# Altium schematic symbol library 原理图封装库.SCHLIB: 195 symbols (part 2 of 2)

## STM32F103VC
designator *
pins: 1 PE2 (io), 2 PE3 (io), 3 PE4 (io), 4 PE5 (io), 5 PE6 (io), 6 VBAT (power), 7 PC13-TAMPER-RTC (io), 8 PC14-OSC32_IN (io), 9 PC15-OSC32_OUT (io), 10 VSS_5 (power), 11 VDD_5 (power), 12 OSC_IN (in), 13 OSC_OUT (out), 14 NRST (io), 15 PC0/ADC123_IN10 (io), 16 PC1/ADC123_IN11 (io), 17 PC2/ADC123_IN12 (io), 18 PC3/ADC123_IN13 (io), 19 VSSA (power), 20 VREF- (power), 21 VREF+ (power), 22 VDDA (power), 23 PA0/ADC123_IN0 (io), 24 PA1/ADC123_IN1 (io), 25 PA2/ADC123_IN2 (io), 26 PA3/ADC123_IN3 (io), 27 VSS_4 (power), 28 VDD_4 (power), 29 PA4/ADC12_IN4 (io), 30 PA5/ADC12_IN5 (io), 31 PA6/ADC12_IN6 (io), 32 PA7/ADC12_IN7 (io), 33 PC4/ADC12_IN14 (io), 34 PC5/ADC12_IN15 (io), 35 PB0/ADC12_IN8 (io), 36 PB1/ADC12_IN9 (io), 37 PB2/BOOT1 (io), 38 PE7 (io), 39 PE8 (io), 40 PE9 (io), 41 PE10 (io), 42 PE11 (io), 43 PE12 (io), 44 PE13 (io), 45 PE14 (io), 46 PE15 (io), 47 PB10/USART3_TX (io), 48 PB11/USART3_RX (io), 49 VSS_1 (power), 50 VDD_1 (power), 51 PB12 (io), 52 PB13 (io), 53 PB14 (io), 54 PB15 (io), 55 PD8 (io), 56 PD9 (io), 57 PD10 (io), 58 PD11 (io), 59 PD12 (io), 60 PD13 (io), 61 PD14 (io), 62 PD15 (io), 63 PC6 (io), 64 PC7 (io), 65 PC8 (io), 66 PC9 (io), 67 PA8/USART1_CK/TIM1_CH2 (io), 68 PA9/USART1_TX (io), 69 PA10/USART1_RX (io), 70 PA11 (io), 71 PA12 (io), 72 PA13/JTMS/SWDIO (io), 73 NC, 74 VSS_2 (power), 75 VDD_2 (power), 76 PA14/JTCK/SWCLK (io), 77 PA15/JTDI (io), 78 PC10/UART4_TX (io), 79 PC11/UART4_RX (io), 80 PC12/UART5_TX (io), 81 PD0 (io), 82 PD1 (io), 83 PD2/UART5_RX (io), 84 PD3 (io), 85 PD4 (io), 86 PD5 (io), 87 PD6 (io), 88 PD7 (io), 89 PB3/JTDO (io), 90 PB4/JNTRST (io), 91 PB5 (io), 92 PB6 (io), 93 PB7 (io), 94 BOOT0 (in), 95 PB8 (io), 96 PB9 (io), 97 PE0 (io), 98 PE1 (io), 99 VSS_3 (power), 100 VDD_3 (power)

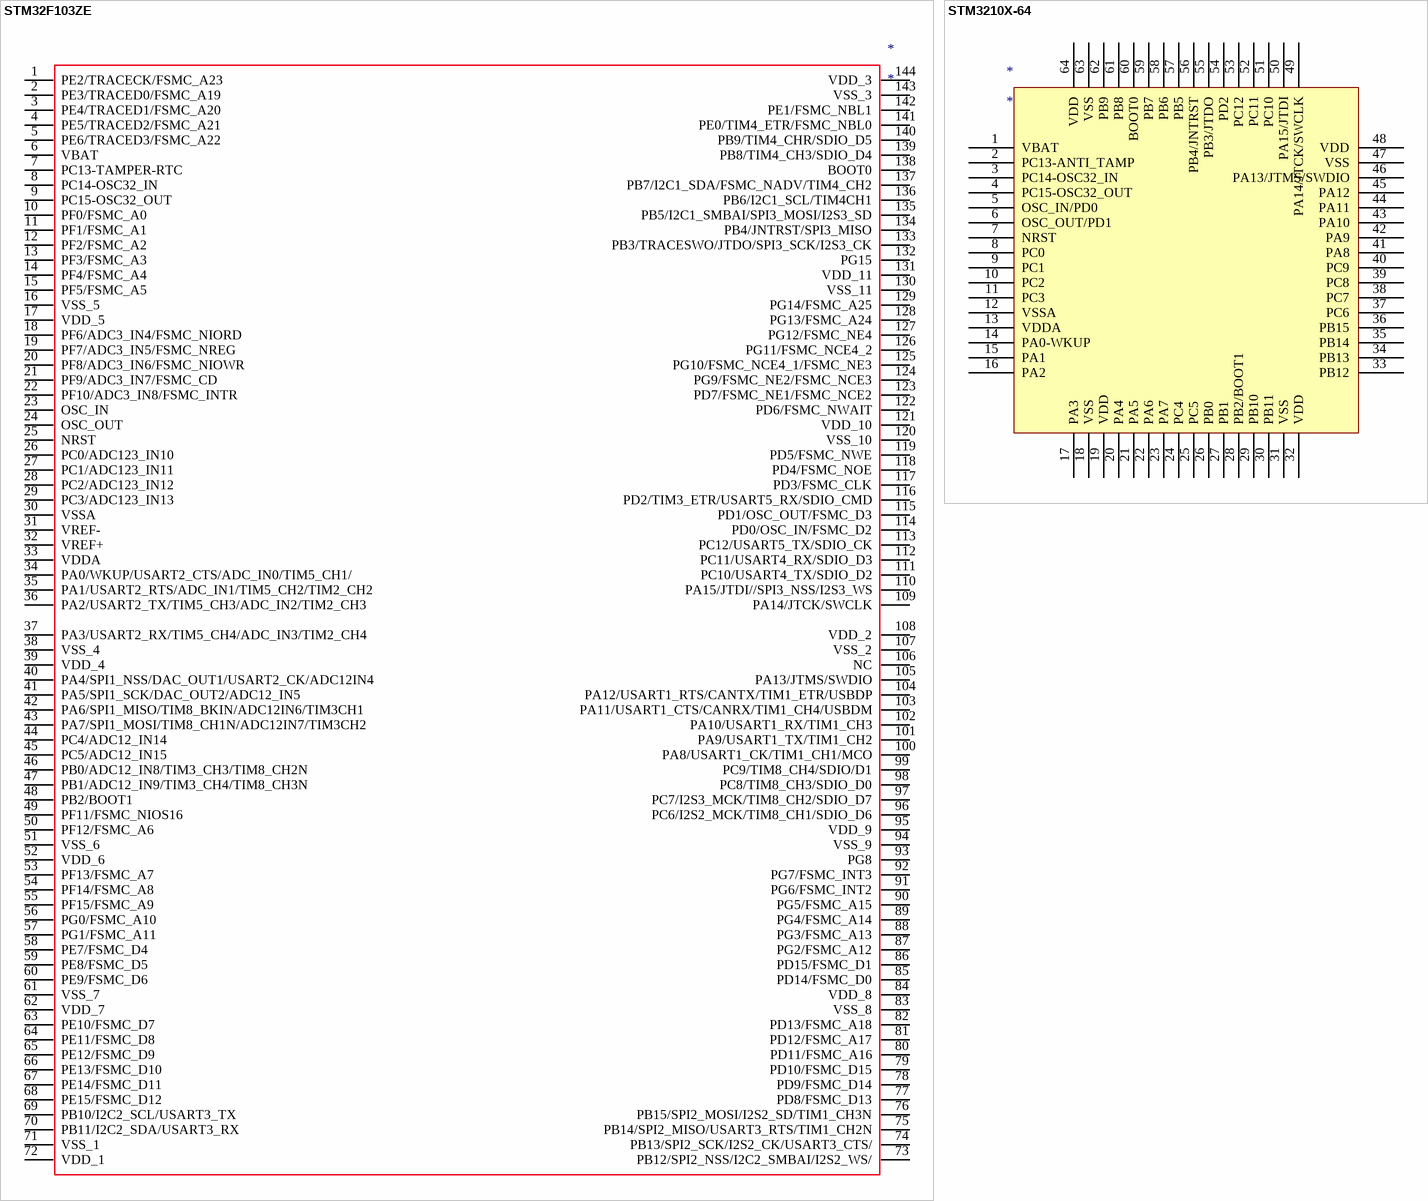
[diagram p12: symbols STM32F103ZE to STM3210X-64]

## STM32F103ZE
designator *
pins: 1 PE2/TRACECK/FSMC_A23, 2 PE3/TRACED0/FSMC_A19, 3 PE4/TRACED1/FSMC_A20, 4 PE5/TRACED2/FSMC_A21, 5 PE6/TRACED3/FSMC_A22, 6 VBAT, 7 PC13-TAMPER-RTC, 8 PC14-OSC32_IN, 9 PC15-OSC32_OUT, 10 PF0/FSMC_A0, 11 PF1/FSMC_A1, 12 PF2/FSMC_A2, 13 PF3/FSMC_A3, 14 PF4/FSMC_A4, 15 PF5/FSMC_A5, 16 VSS_5, 17 VDD_5, 18 PF6/ADC3_IN4/FSMC_NIORD, 19 PF7/ADC3_IN5/FSMC_NREG, 20 PF8/ADC3_IN6/FSMC_NIOWR, 21 PF9/ADC3_IN7/FSMC_CD, 22 PF10/ADC3_IN8/FSMC_INTR, 23 OSC_IN, 24 OSC_OUT, 25 NRST, 26 PC0/ADC123_IN10, 27 PC1/ADC123_IN11, 28 PC2/ADC123_IN12, 29 PC3/ADC123_IN13, 30 VSSA, 31 VREF-, 32 VREF+, 33 VDDA, 34 PA0/WKUP/USART2_CTS/ADC_IN0/TIM5_CH1/, 35 PA1/USART2_RTS/ADC_IN1/TIM5_CH2/TIM2_CH2, 36 PA2/USART2_TX/TIM5_CH3/ADC_IN2/TIM2_CH3, 37 PA3/USART2_RX/TIM5_CH4/ADC_IN3/TIM2_CH4, 38 VSS_4, 39 VDD_4, 40 PA4/SPI1_NSS/DAC_OUT1/USART2_CK/ADC12IN4, 41 PA5/SPI1_SCK/DAC_OUT2/ADC12_IN5, 42 PA6/SPI1_MISO/TIM8_BKIN/ADC12IN6/TIM3CH1, 43 PA7/SPI1_MOSI/TIM8_CH1N/ADC12IN7/TIM3CH2, 44 PC4/ADC12_IN14, 45 PC5/ADC12_IN15, 46 PB0/ADC12_IN8/TIM3_CH3/TIM8_CH2N, 47 PB1/ADC12_IN9/TIM3_CH4/TIM8_CH3N, 48 PB2/BOOT1, 49 PF11/FSMC_NIOS16, 50 PF12/FSMC_A6, 51 VSS_6, 52 VDD_6, 53 PF13/FSMC_A7, 54 PF14/FSMC_A8, 55 PF15/FSMC_A9, 56 PG0/FSMC_A10, 57 PG1/FSMC_A11, 58 PE7/FSMC_D4, 59 PE8/FSMC_D5, 60 PE9/FSMC_D6, 61 VSS_7, 62 VDD_7, 63 PE10/FSMC_D7, 64 PE11/FSMC_D8, 65 PE12/FSMC_D9, 66 PE13/FSMC_D10, 67 PE14/FSMC_D11, 68 PE15/FSMC_D12, 69 PB10/I2C2_SCL/USART3_TX, 70 PB11/I2C2_SDA/USART3_RX, 71 VSS_1, 72 VDD_1, 73 PB12/SPI2_NSS/I2C2_SMBAI/I2S2_WS/, 74 PB13/SPI2_SCK/I2S2_CK/USART3_CTS/, 75 PB14/SPI2_MISO/USART3_RTS/TIM1_CH2N, 76 PB15/SPI2_MOSI/I2S2_SD/TIM1_CH3N, 77 PD8/FSMC_D13, 78 PD9/FSMC_D14, 79 PD10/FSMC_D15, 80 PD11/FSMC_A16, 81 PD12/FSMC_A17, 82 PD13/FSMC_A18, 83 VSS_8, 84 VDD_8, 85 PD14/FSMC_D0, 86 PD15/FSMC_D1, 87 PG2/FSMC_A12, 88 PG3/FSMC_A13, 89 PG4/FSMC_A14, 90 PG5/FSMC_A15, 91 PG6/FSMC_INT2, 92 PG7/FSMC_INT3, 93 PG8, 94 VSS_9, 95 VDD_9, 96 PC6/I2S2_MCK/TIM8_CH1/SDIO_D6, 97 PC7/I2S3_MCK/TIM8_CH2/SDIO_D7, 98 PC8/TIM8_CH3/SDIO_D0, 99 PC9/TIM8_CH4/SDIO/D1, 100 PA8/USART1_CK/TIM1_CH1/MCO, 101 PA9/USART1_TX/TIM1_CH2, 102 PA10/USART1_RX/TIM1_CH3, 103 PA11/USART1_CTS/CANRX/TIM1_CH4/USBDM, 104 PA12/USART1_RTS/CANTX/TIM1_ETR/USBDP, 105 PA13/JTMS/SWDIO, 106 NC, 107 VSS_2, 108 VDD_2, 109 PA14/JTCK/SWCLK, 110 PA15/JTDI//SPI3_NSS/I2S3_WS, 111 PC10/USART4_TX/SDIO_D2, 112 PC11/USART4_RX/SDIO_D3, 113 PC12/USART5_TX/SDIO_CK, 114 PD0/OSC_IN/FSMC_D2, 115 PD1/OSC_OUT/FSMC_D3, 116 PD2/TIM3_ETR/USART5_RX/SDIO_CMD, 117 PD3/FSMC_CLK, 118 PD4/FSMC_NOE, 119 PD5/FSMC_NWE, 120 VSS_10, 121 VDD_10, 122 PD6/FSMC_NWAIT, 123 PD7/FSMC_NE1/FSMC_NCE2, 124 PG9/FSMC_NE2/FSMC_NCE3, 125 PG10/FSMC_NCE4_1/FSMC_NE3, 126 PG11/FSMC_NCE4_2, 127 PG12/FSMC_NE4, 128 PG13/FSMC_A24, 129 PG14/FSMC_A25, 130 VSS_11, 131 VDD_11, 132 PG15, 133 PB3/TRACESWO/JTDO/SPI3_SCK/I2S3_CK, 134 PB4/JNTRST/SPI3_MISO, 135 PB5/I2C1_SMBAI/SPI3_MOSI/I2S3_SD, 136 PB6/I2C1_SCL/TIM4CH1, 137 PB7/I2C1_SDA/FSMC_NADV/TIM4_CH2, 138 BOOT0, 139 PB8/TIM4_CH3/SDIO_D4, 140 PB9/TIM4_CHR/SDIO_D5, 141 PE0/TIM4_ETR/FSMC_NBL0, 142 PE1/FSMC_NBL1, 143 VSS_3, 144 VDD_3

## STM3210X-64
designator *
pins: 1 VBAT, 2 PC13-ANTI_TAMP, 3 PC14-OSC32_IN, 4 PC15-OSC32_OUT, 5 OSC_IN/PD0, 6 OSC_OUT/PD1, 7 NRST, 8 PC0, 9 PC1, 10 PC2, 11 PC3, 12 VSSA, 13 VDDA, 14 PA0-WKUP, 15 PA1, 16 PA2, 17 PA3, 18 VSS, 19 VDD, 20 PA4, 21 PA5, 22 PA6, 23 PA7, 24 PC4, 25 PC5, 26 PB0, 27 PB1, 28 PB2/BOOT1, 29 PB10, 30 PB11, 31 VSS, 32 VDD, 33 PB12, 34 PB13, 35 PB14, 36 PB15, 37 PC6, 38 PC7, 39 PC8, 40 PC9, 41 PA8, 42 PA9, 43 PA10, 44 PA11, 45 PA12, 46 PA13/JTMS/SWDIO, 47 VSS, 48 VDD, 49 PA14/JTCK/SWCLK, 50 PA15/JTDI, 51 PC10, 52 PC11, 53 PC12, 54 PD2, 55 PB3/JTDO, 56 PB4/JNTRST, 57 PB5, 58 PB6, 59 PB7, 60 BOOT0, 61 PB8, 62 PB9, 63 VSS, 64 VDD

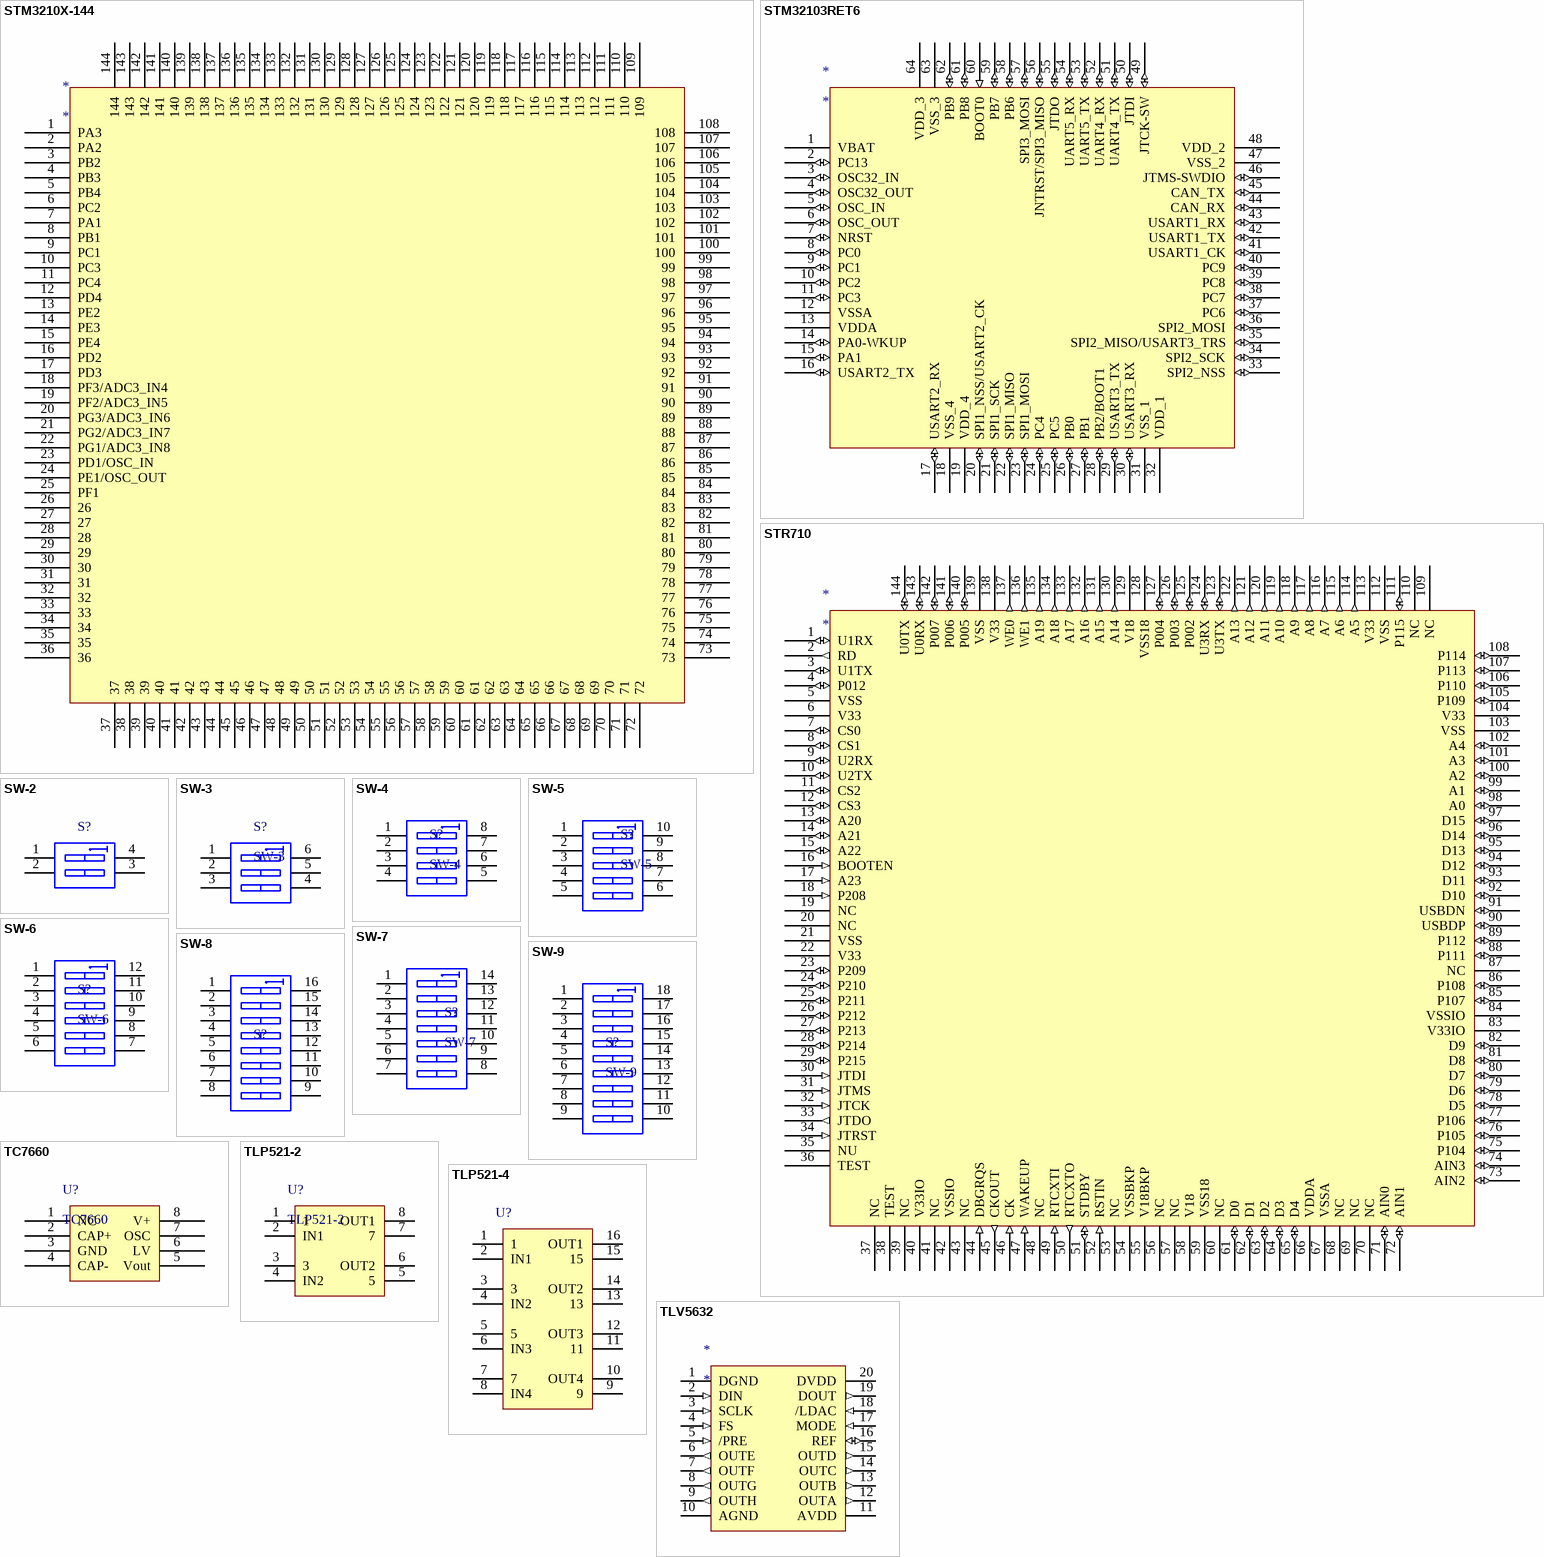
[diagram p13: symbols STM3210X-144 to TLV5632]

## STM3210X-144
designator *
pins: 1 PA3, 2 PA2, 3 PB2, 4 PB3, 5 PB4, 6 PC2, 7 PA1, 8 PB1, 9 PC1, 10 PC3, 11 PC4, 12 PD4, 13 PE2, 14 PE3, 15 PE4, 16 PD2, 17 PD3, 18 PF3/ADC3_IN4, 19 PF2/ADC3_IN5, 20 PG3/ADC3_IN6, 21 PG2/ADC3_IN7, 22 PG1/ADC3_IN8, 23 PD1/OSC_IN, 24 PE1/OSC_OUT, 25 PF1, 26, 27, 28, 29, 30, 31, 32, 33, 34, 35, 36, 37, 38, 39, 40, 41, 42, 43, 44, 45, 46, 47, 48, 49, 50, 51, 52, 53, 54, 55, 56, 57, 58, 59, 60, 61, 62, 63, 64, 65, 66, 67, 68, 69, 70, 71, 72, 73, 74, 75, 76, 77, 78, 79, 80, 81, 82, 83, 84, 85, 86, 87, 88, 89, 90, 91, 92, 93, 94, 95, 96, 97, 98, 99, 100, 101, 102, 103, 104, 105, 106, 107, 108, 109, 110, 111, 112, 113, 114, 115, 116, 117, 118, 119, 120, 121, 122, 123, 124, 125, 126, 127, 128, 129, 130, 131, 132, 133, 134, 135, 136, 137, 138, 139, 140, 141, 142, 143, 144

## STM32103RET6
designator *
pins: 1 VBAT (power), 2 PC13 (io), 3 OSC32_IN (io), 4 OSC32_OUT (io), 5 OSC_IN (io), 6 OSC_OUT (io), 7 NRST (io), 8 PC0 (io), 9 PC1 (io), 10 PC2 (io), 11 PC3 (io), 12 VSSA (power), 13 VDDA (power), 14 PA0-WKUP (io), 15 PA1 (io), 16 USART2_TX (io), 17 USART2_RX (io), 18 VSS_4 (power), 19 VDD_4 (power), 20 SPI1_NSS/USART2_CK (io), 21 SPI1_SCK (io), 22 SPI1_MISO (io), 23 SPI1_MOSI (io), 24 PC4 (io), 25 PC5 (io), 26 PB0 (io), 27 PB1 (io), 28 PB2/BOOT1 (io), 29 USART3_TX (io), 30 USART3_RX (io), 31 VSS_1 (power), 32 VDD_1 (power), 33 SPI2_NSS (io), 34 SPI2_SCK (io), 35 SPI2_MISO/USART3_TRS (io), 36 SPI2_MOSI (io), 37 PC6 (io), 38 PC7 (io), 39 PC8 (io), 40 PC9 (io), 41 USART1_CK (io), 42 USART1_TX (io), 43 USART1_RX (io), 44 CAN_RX (io), 45 CAN_TX (io), 46 JTMS-SWDIO (io), 47 VSS_2 (power), 48 VDD_2 (power), 49 JTCK-SW (io), 50 JTDI (io), 51 UART4_TX (io), 52 UART4_RX (io), 53 UART5_TX (io), 54 UART5_RX (io), 55 JTDO (io), 56 JNTRST/SPI3_MISO (io), 57 SPI3_MOSI (io), 58 PB6 (io), 59 PB7 (io), 60 BOOT0 (in), 61 PB8 (io), 62 PB9 (io), 63 VSS_3 (power), 64 VDD_3 (power)

## STR710
designator *
pins: 1 U1RX (io), 2 RD (out), 3 U1TX (io), 4 P012 (io), 5 VSS (power), 6 V33 (power), 7 CS0 (io), 8 CS1 (io), 9 U2RX (io), 10 U2TX (io), 11 CS2 (io), 12 CS3 (io), 13 A20 (io), 14 A21 (io), 15 A22 (io), 16 BOOTEN (in), 17 A23 (in), 18 P208 (in), 19 NC (hiz), 20 NC (hiz), 21 VSS (power), 22 V33 (power), 23 P209 (io), 24 P210 (io), 25 P211 (io), 26 P212 (io), 27 P213 (io), 28 P214 (io), 29 P215 (io), 30 JTDI (in), 31 JTMS (in), 32 JTCK (in), 33 JTDO (out), 34 JTRST (in), 35 NU (power), 36 TEST (power), 37 NC (hiz), 38 TEST (power), 39 NC (hiz), 40 V33IO (power), 41 NC (hiz), 42 VSSIO (power), 43 NC (hiz), 44 DBGRQS (in), 45 CKOUT (out), 46 CK (in), 47 WAKEUP (in), 48 NC (hiz), 49 RTCXTI (in), 50 RTCXTO (out), 51 STDBY (io), 52 RSTIN (in), 53 NC (hiz), 54 VSSBKP (power), 55 V18BKP (power), 56 NC (hiz), 57 NC (hiz), 58 V18 (power), 59 VSS18 (power), 60 NC (hiz), 61 D0 (io), 62 D1 (io), 63 D2 (io), 64 D3 (io), 65 D4 (io), 66 VDDA (power), 67 VSSA (power), 68 NC (hiz), 69 NC (hiz), 70 NC (hiz), 71 AIN0 (io), 72 AIN1 (io), 73 AIN2 (io), 74 AIN3 (io), 75 P104 (io), 76 P105 (io), 77 P106 (io), 78 D5 (io), 79 D6 (io), 80 D7 (io), 81 D8 (io), 82 D9 (io), 83 V33IO (power), 84 VSSIO (power), 85 P107 (io), 86 P108 (io), 87 NC (hiz), 88 P111 (io), 89 P112 (io), 90 USBDP (io), 91 USBDN (io), 92 D10 (io), 93 D11 (io), 94 D12 (io), 95 D13 (io), 96 D14 (io), 97 D15 (io), 98 A0 (io), 99 A1 (io), 100 A2 (io), 101 A3 (io), 102 A4 (io), 103 VSS (power), 104 V33 (power), 105 P109 (io), 106 P110 (io), 107 P113 (io), 108 P114 (io), 109 NC (hiz), 110 NC (hiz), 111 P115 (io), 112 VSS (power), 113 V33 (power), 114 A5 (out), 115 A6 (out), 116 A7 (out), 117 A8 (out), 118 A9 (out), 119 A10 (out), 120 A11 (out), 121 A12 (out), 122 A13 (out), 123 U3TX (io), 124 U3RX (io), 125 P002 (io), 126 P003 (io), 127 P004 (io), 128 VSS18 (power), 129 V18 (power), 130 A14 (out), 131 A15 (out), 132 A16 (out), 133 A17 (out), 134 A18 (out), 135 A19 (out), 136 WE1 (out), 137 WE0 (out), 138 V33 (power), 139 VSS (power), 140 P005 (io), 141 P006 (io), 142 P007 (io), 143 U0RX (io), 144 U0TX (io)

## SW-2
designator S?  (value not drawn)
pins: 1 A1, 2 A2, 3 B2, 4 B1

## SW-3
designator S?
pins: 1 A1, 2 A2, 3 A3, 4 B3, 5 B2, 6 B1

## SW-4
designator S?
pins: 1 A1, 2 A2, 3 A3, 4 A4, 5 B4, 6 B3, 7 B2, 8 B1

## SW-5
designator S?
pins: 1 A1, 2 A2, 3 A3, 4 A4, 5 A5, 6 B5, 7 B4, 8 B3, 9 B2, 10 B1

## SW-6
designator S?
pins: 1 A1, 2 A2, 3 A3, 4 A4, 5 A5, 6 A6, 7 B6, 8 B5, 9 B4, 10 B3, 11 B2, 12 B1

## SW-7
designator S?
pins: 1 A1, 2 A2, 3 A3, 4 A4, 5 A5, 6 A6, 7 A7, 8 B7, 9 B6, 10 B5, 11 B4, 12 B3, 13 B2, 14 B1

## SW-8
designator S?  (value not drawn)
pins: 1 A1, 2 A2, 3 A3, 4 A4, 5 A5, 6 A6, 7 A7, 8 A8, 9 B8, 10 B7, 11 B6, 12 B5, 13 B4, 14 B3, 15 B2, 16 B1

## SW-9
designator S?
pins: 1 A1, 2 A2, 3 A3, 4 A4, 5 A5, 6 A6, 7 A7, 8 A8, 9 A9, 10 B9, 11 B8, 12 B7, 13 B6, 14 B5, 15 B4, 16 B3, 17 B2, 18 B1

## TC7660
designator U?
pins: 1 NC, 2 CAP+, 3 GND, 4 CAP-, 5 Vout, 6 LV, 7 OSC, 8 V+

## TLP521-2
designator U?
pins: 1, 2 IN1, 3, 4 IN2, 5, 6 OUT2, 7, 8 OUT1

## TLP521-4
designator U?  (value not drawn)
pins: 1, 2 IN1, 3, 4 IN2, 5, 6 IN3, 7, 8 IN4, 9, 10 OUT4, 11, 12 OUT3, 13, 14 OUT2, 15, 16 OUT1

## TLV5632
designator *
pins: 1 DGND (power), 2 DIN (in), 3 SCLK (in), 4 FS (in), 5 /PRE (in), 6 OUTE (out), 7 OUTF (out), 8 OUTG (out), 9 OUTH (out), 10 AGND (power), 11 AVDD (power), 12 OUTA (out), 13 OUTB (out), 14 OUTC (out), 15 OUTD (out), 16 REF (io), 17 MODE (in), 18 /LDAC (in), 19 DOUT (out), 20 DVDD (power)

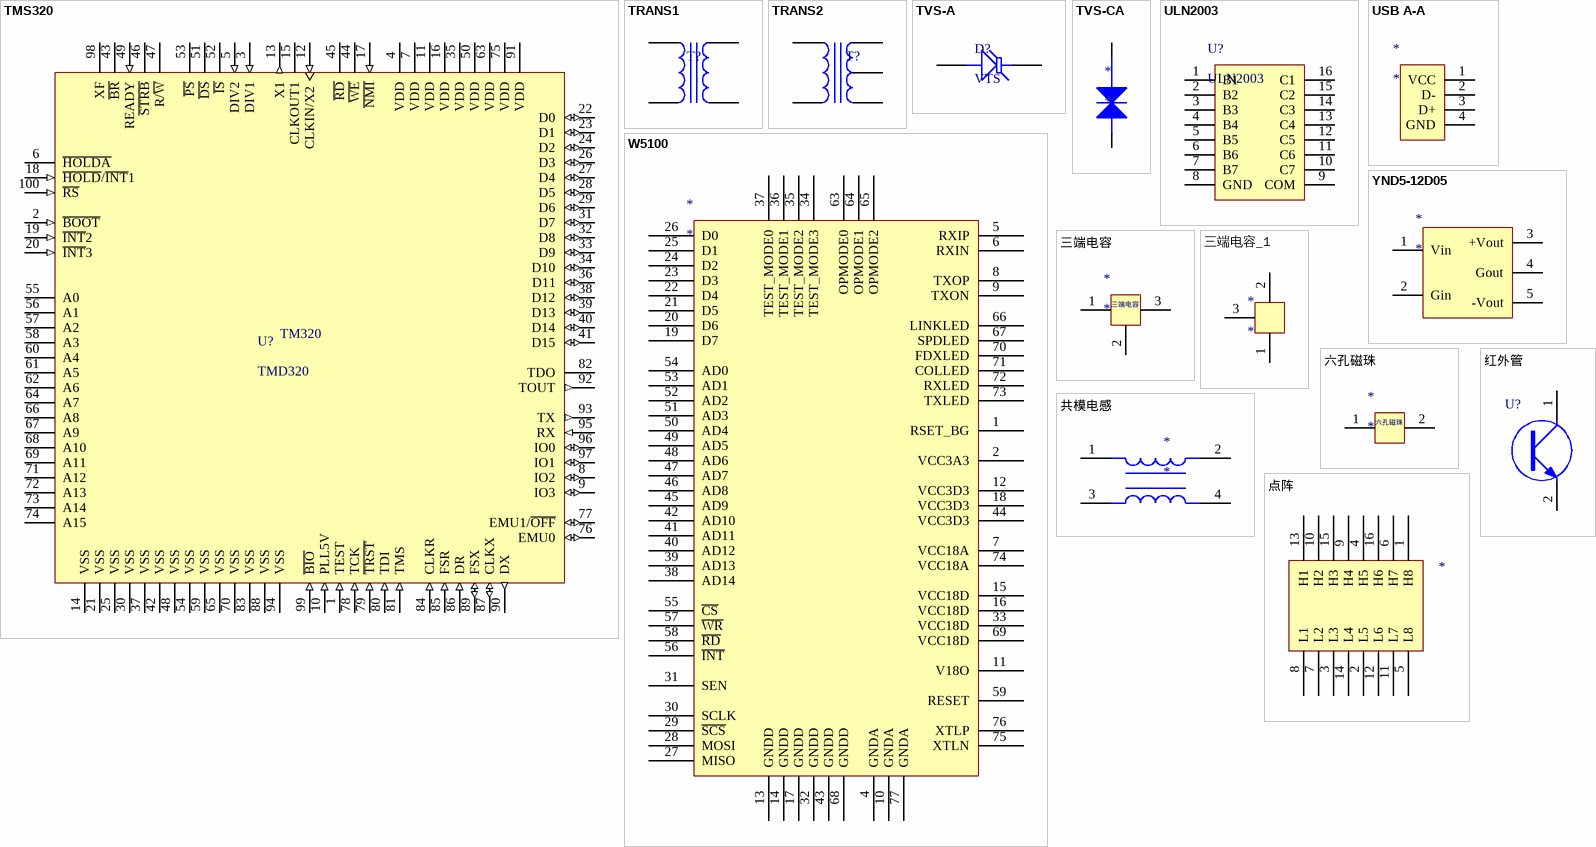
[diagram p14: symbols TMS320 to 红外管]

## TMS320
designator U?, comment TMD320
pins: 1 TEST (in), 2 ~{BOOT} (in), 3 DIV1 (in), 4 VDD (power), 5 DIV2 (in), 6 ~{HOLDA} (hiz), 7 VDD (power), 8 IO2 (io), 9 IO3 (io), 10 PLL5V (in), 11 VDD (power), 12 CLKIN/X2 (in), 13 X1 (out), 14 VSS (power), 15 CLKOUT1 (hiz), 16 VDD (power), 17 ~{NMI} (in), 18 ~{HOLD}/~{INT}1 (in), 19 ~{INT}2 (in), 20 ~{INT}3 (in), 21 VSS (power), 22 D0 (io), 23 D1 (io), 24 D2 (io), 25 VSS (power), 26 D3 (io), 27 D4 (io), 28 D5 (io), 29 D6 (io), 30 VSS (power), 31 D7 (io), 32 D8 (io), 33 D9 (io), 34 D10 (io), 35 VDD (power), 36 D11 (io), 37 VSS (power), 38 D12 (io), 39 D13 (io), 40 D14 (io), 41 D15 (io), 42 VSS (power), 43 ~{BR} (hiz), 44 ~{WE} (hiz), 45 ~{RD} (hiz), 46 ~{STRB} (hiz), 47 R/~{W} (hiz), 48 VSS (power), 49 READY (in), 50 VDD (power), 51 ~{DS} (hiz), 52 ~{IS} (hiz), 53 ~{PS} (hiz), 54 VSS (power), 55 A0 (hiz), 56 A1 (hiz), 57 A2 (hiz), 58 A3 (hiz), 59 VSS (power), 60 A4 (hiz), 61 A5 (hiz), 62 A6 (hiz), 63 VDD (power), 64 A7 (hiz), 65 VSS (power), 66 A8 (hiz), 67 A9 (hiz), 68 A10 (hiz), 69 A11 (hiz), 70 VSS (power), 71 A12 (hiz), 72 A13 (hiz), 73 A14 (hiz), 74 A15 (hiz), 75 VDD (power), 76 EMU0 (io), 77 EMU1/~{OFF} (io), 78 TCK (in), 79 ~{TRST} (in), 80 TDI (in), 81 TMS (in), 82 TDO (hiz), 83 VSS (power), 84 CLKR (in), 85 FSR (in), 86 DR (in), 87 CLKX (io), 88 VSS (power), 89 FSX (io), 90 DX (out), 91 VDD (power), 92 TOUT (out), 93 TX (out), 94 VSS (power), 95 RX (in), 96 IO0 (io), 97 IO1 (io), 98 XF (hiz), 99 ~{BIO} (in), 100 ~{RS} (in)
text: TM320

## TRANS1
designator T?  (value not drawn)
pins: 1, 2, 3, 4

## TRANS2
designator T?  (value not drawn)
pins: 1, 2, 3, 4, 5

## TVS-A
designator D?, comment VTS
pins: 1 A, 2 K

## TVS-CA
designator *
pins: 1, 2

## ULN2003
designator U?
pins: 1 B1, 2 B2, 3 B3, 4 B4, 5 B5, 6 B6, 7 B7, 8 GND, 9 COM, 10 C7, 11 C6, 12 C5, 13 C4, 14 C3, 15 C2, 16 C1

## USB A-A
designator *
pins: 1 VCC, 2 D-, 3 D+, 4 GND

## W5100
designator *
pins: 1 RSET_BG, 2 VCC3A3, 4 GNDA, 5 RXIP, 6 RXIN, 7 VCC18A, 8 TXOP, 9 TXON, 10 GNDA, 11 V18O, 12 VCC3D3, 13 GNDD, 14 GNDD, 15 VCC18D, 16 VCC18D, 17 GNDD, 18 VCC3D3, 19 D7, 20 D6, 21 D5, 22 D4, 23 D3, 24 D2, 25 D1, 26 D0, 27 MISO, 28 MOSI, 29 ~{SCS}, 30 SCLK, 31 SEN, 32 GNDD, 33 VCC18D, 34 TEST_MODE3, 35 TEST_MODE2, 36 TEST_MODE1, 37 TEST_MODE0, 38 AD14, 39 AD13, 40 AD12, 41 AD11, 42 AD10, 43 GNDD, 44 VCC3D3, 45 AD9, 46 AD8, 47 AD7, 48 AD6, 49 AD5, 50 AD4, 51 AD3, 52 AD2, 53 AD1, 54 AD0, 55 ~{CS}, 56 ~{INT}, 57 ~{WR}, 58 ~{RD}, 59 RESET, 63 OPMODE0, 64 OPMODE1, 65 OPMODE2, 66 LINKLED, 67 SPDLED, 68 GNDD, 69 VCC18D, 70 FDXLED, 71 COLLED, 72 RXLED, 73 TXLED, 74 VCC18A, 75 XTLN, 76 XTLP, 77 GNDA

## YND5-12D05
designator *
pins: 1 Vin, 2 Gin, 3 +Vout, 4 Gout, 5 -Vout

## 三端电容
designator *
pins: 1, 2, 3

## 三端电容_1
designator *
pins: 1, 2, 3

## 六孔磁珠
designator *
pins: 1, 2

## 共模电感
designator *
pins: 1, 2, 3, 4

## 点阵
designator ?
pins: 1 H8, 2 L5, 3 L3, 4 H5, 5 L8, 6 H7, 7 L2, 8 L1, 9 H4, 10 H2, 11 L7, 12 L6, 13 H1, 14 L4, 15 H3, 16 H6

## 红外管
designator U?, comment NPN_1  (value not drawn)
pins: 1 C, 2 E